# Altium footprint library Terminal_Pin_Pcb.PcbLib: 1 footprints
Each footprint in its own frame and in the unit in brackets; x right, y up, seen from the top. Pads: shape width x height; smd on the part's side, far side on the other; paste and mask are expansions set on the pad; w line width, h text height; cw(c..) or ccw(c..) is an arc to the next point about the centre after c.
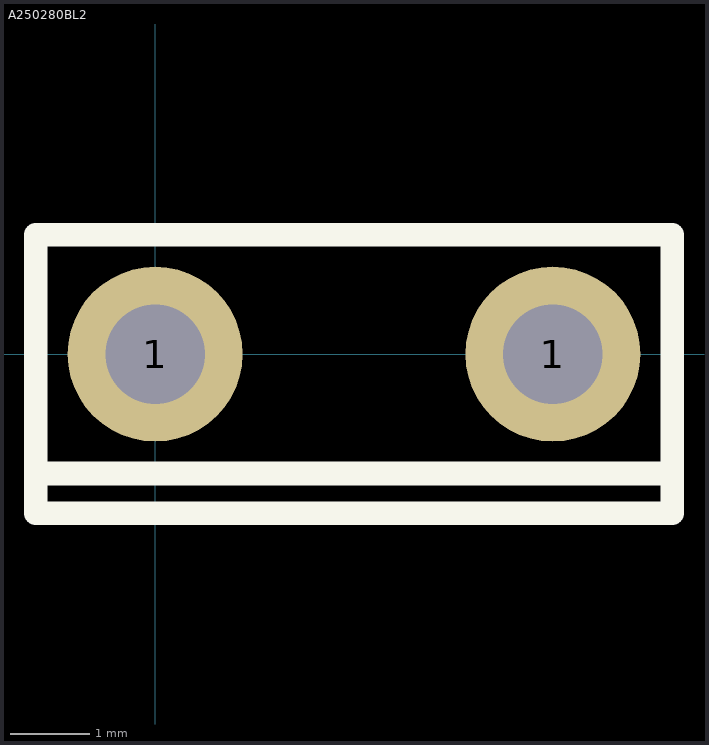
[diagram p0: the footprint, top view; thin cyan lines are the x and y axes]

## A250280BL2 [mm] "A250280BL2"
pads (2):
  round 2.2 hole 1.25: 1(0,0) 1(5,0)
Top Overlay:
  lines w0.3: -1.5,-1.5 6.5,-1.5 ; -1.5,-2 6.5,-2 6.5,1.5 -1.5,1.5 -1.5,-2
3D body "c-725964-2-d-3d.stp": height 12.71, standoff -3.78, extent -1.5,-0.4 6.5,0.4